# Altium integrated library TI Interface Serializer Deserializer.IntLib: 46 symbols (part 2 of 4)
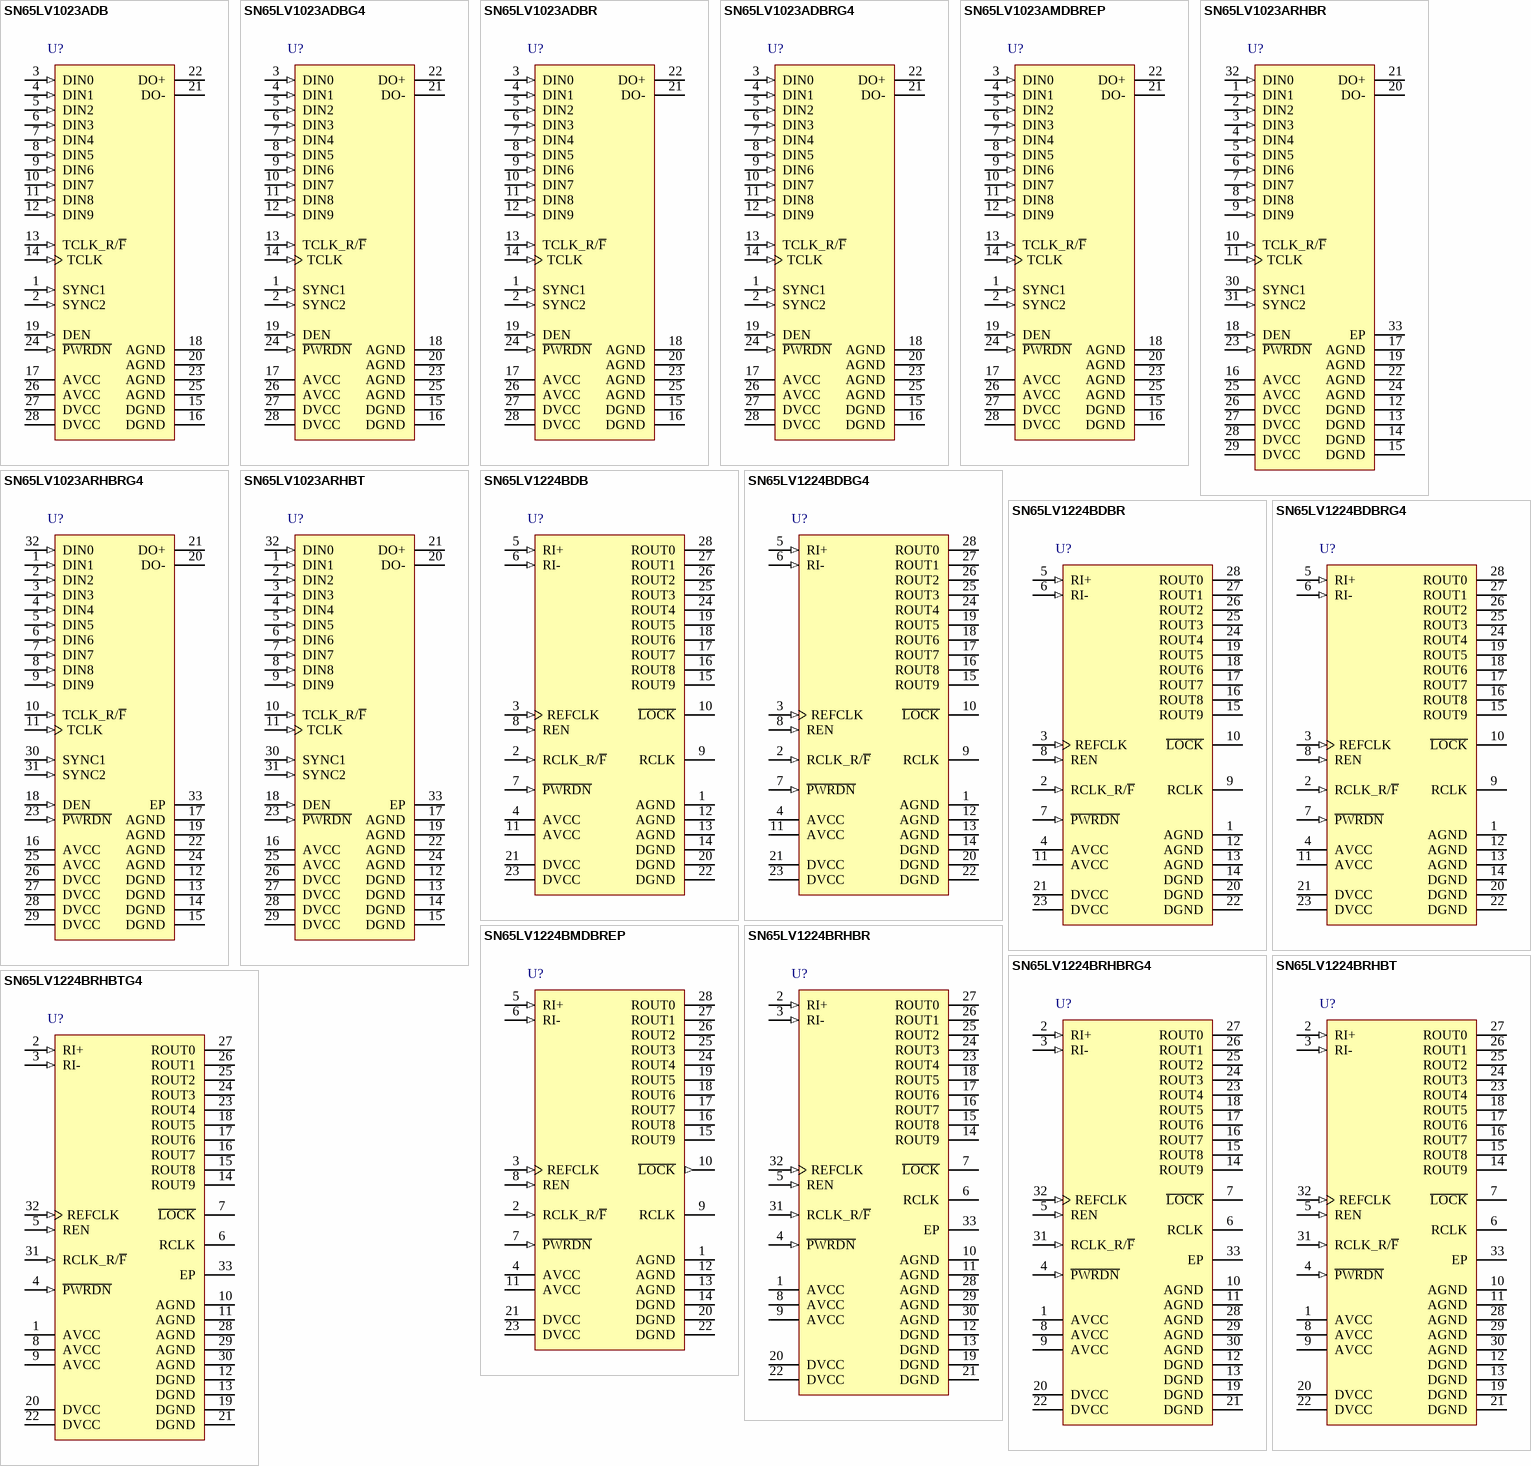
[diagram p5: symbols SN65LV1023ADB to SN65LV1224BRHBTG4]

## SN65LV1224BRHBRG4
designator U?
1:10 LVDS Serdes Receiver 100 - 660 Mbps, 3.3 V, 660 MB/s Data Throughput, 2 Receiver Channels, -40 to +85 degC, 32-pin QFN (RHB), Green (RoHS & no Sb/Br); Manufacturer: Texas Instruments; PartNumber: SN65LV1224BRHBRG4; Data Throughput(MB/s): 660; ICC(mA): 80; Number of Parallel Outputs: 10; PLL Frequency(MHz): 10 - 66; Receiver (Vth)(mV): 50; Receiver tpd(ns): 8; SerDes: TRUE; Serial Data Receiver Channels: 2; SubFamily: LVDS Serdes (<100 MHz); Supply Voltage(s)(V): 3.3; DatasheetVersion: SLLS621E; PackageVersion: revD, Jun-2011; PackageReference: RHB32-3450X3450TP; PackageDescription: 32-Pin Plastic Quad Flat No-Lead, 5 x 5 mm Body, 0.5 mm Pitch, 3.45 x 3.45 mm Exposed Pad; Eco-Plan: Green (RoHS & no Sb/Br); Type of Line Circuit: LVDS; Mounting Technology: Surface Mount; Code_JEDEC: MO-220; ComponentLink1Description: Datasheet; ComponentLink1URL: http://www.ti.com/general/docs/lit/getliterature.tsp?genericPartNumber=SN65LV1224B&fileType=pdf; ComponentLink2Description: URL Link1; ComponentLink2URL: SamplesURL:http://www.ti.com/product/sn65lv1224b#samples
footprint RHB32-3450X3450TP (QFN, 32-Leads, Body 5x5mm, Pitch 0.5mm, Thermal Pad 3.45x3.45mm, TI Recommended)
pins: 1 AVCC (power) "Analog circuit power supply (PLL and analog circuits)", 2 RI+ (in) "Serial data input. Noninverting LVDS differential input", 3 RI- (in) "Serial data input. Inverting LVDS differential input", 4 ~{PWRDN} (in) "LVTTL logic input. Asserting this pin low turns off the PLL and places outputs into a high-impedance state, putting the device into a low-power mode. To initiate power down, this pin is held low for a minimum of 16 ns. As (See Datasheet)", 5 REN (in) "LVTTL logic input. Low places ROUT0-ROUT9 and RCLK in the high-impedance state.", 6 RCLK (hiz) "LVTTL level output recovered clock. Use RCLK to strobe ROUTx.", 7 ~{LOCK} (hiz) "LVTTL level output. L\O\C\K\ goes low when the deserializer PLL locks onto the embedded clock edge.", 8 AVCC (power) "Analog circuit power supply (PLL and analog circuits)", 9 AVCC (power) "Analog circuit power supply (PLL and analog circuits)", 10 AGND (power) "Analog circuit ground (PLL and analog circuits)", 11 AGND (power) "Analog circuit ground (PLL and analog circuits)", 12 DGND (power) "Digital circuit ground", 13 DGND (power) "Digital circuit ground", 14 ROUT9 (hiz) "Parallel LVTTL data output", 15 ROUT8 (hiz) "Parallel LVTTL data output", 16 ROUT7 (hiz) "Parallel LVTTL data output", 17 ROUT6 (hiz) "Parallel LVTTL data output", 18 ROUT5 (hiz) "Parallel LVTTL data output", 19 DGND (power) "Digital circuit ground", 20 DVCC (power) "Digital circuit power supply", 21 DGND (power) "Digital circuit ground", 22 DVCC (power) "Digital circuit power supply", 23 ROUT4 (hiz) "Parallel LVTTL data output", 24 ROUT3 (hiz) "Parallel LVTTL data output", 25 ROUT2 (hiz) "Parallel LVTTL data output", 26 ROUT1 (hiz) "Parallel LVTTL data output", 27 ROUT0 (hiz) "Parallel LVTTL data output", 28 AGND (power) "Analog circuit ground (PLL and analog circuits)", 29 AGND (power) "Analog circuit ground (PLL and analog circuits)", 30 AGND (power) "Analog circuit ground (PLL and analog circuits)", 31 RCLK_R/~{F} (in) "LVTTL logic input. Low selects an RCLK falling-edge data strobe; high selects an RCLK rising-edge data strobe.", 32 REFCLK (in) "LVTTL logic input. Use this pin to supply a REFCLK signal for the internal PLL frequency.", 33 EP "Exposed Thermal Pad"

## SN65LV1224BRHBT
designator U?
1:10 LVDS Serdes Receiver 100 - 660 Mbps , 3.3 V, 660 MB/s Data Throughput, 2 Receiver Channels, -40 to +85 degC, 32-pin QFN (RHB), Green (RoHS & no Sb/Br); Manufacturer: Texas Instruments; PartNumber: SN65LV1224BRHBT; Data Throughput(MB/s): 660; ICC(mA): 80; Number of Parallel Outputs: 10; PLL Frequency(MHz): 10 - 66; Receiver (Vth)(mV): 50; Receiver tpd(ns): 8; SerDes: TRUE; Serial Data Receiver Channels: 2; SubFamily: LVDS Serdes (<100 MHz); Supply Voltage(s)(V): 3.3; DatasheetVersion: SLLS621E; PackageVersion: revD, Jun-2011; PackageReference: RHB32-3450X3450TP; PackageDescription: 32-Pin Plastic Quad Flat No-Lead, 5 x 5 mm Body, 0.5 mm Pitch, 3.45 x 3.45 mm Exposed Pad; Eco-Plan: Green (RoHS & no Sb/Br); Type of Line Circuit: LVDS; Mounting Technology: Surface Mount; Code_JEDEC: MO-220; ComponentLink1Description: Datasheet; ComponentLink1URL: http://www.ti.com/general/docs/lit/getliterature.tsp?genericPartNumber=SN65LV1224B&fileType=pdf; ComponentLink2Description: URL Link1; ComponentLink2URL: SamplesURL:http://www.ti.com/product/sn65lv1224b#samples
footprint RHB32-3450X3450TP (QFN, 32-Leads, Body 5x5mm, Pitch 0.5mm, Thermal Pad 3.45x3.45mm, TI Recommended)
pins: 1 AVCC (power) "Analog circuit power supply (PLL and analog circuits)", 2 RI+ (in) "Serial data input. Noninverting LVDS differential input", 3 RI- (in) "Serial data input. Inverting LVDS differential input", 4 ~{PWRDN} (in) "LVTTL logic input. Asserting this pin low turns off the PLL and places outputs into a high-impedance state, putting the device into a low-power mode. To initiate power down, this pin is held low for a minimum of 16 ns. As (See Datasheet)", 5 REN (in) "LVTTL logic input. Low places ROUT0-ROUT9 and RCLK in the high-impedance state.", 6 RCLK (hiz) "LVTTL level output recovered clock. Use RCLK to strobe ROUTx.", 7 ~{LOCK} (hiz) "LVTTL level output. L\O\C\K\ goes low when the deserializer PLL locks onto the embedded clock edge.", 8 AVCC (power) "Analog circuit power supply (PLL and analog circuits)", 9 AVCC (power) "Analog circuit power supply (PLL and analog circuits)", 10 AGND (power) "Analog circuit ground (PLL and analog circuits)", 11 AGND (power) "Analog circuit ground (PLL and analog circuits)", 12 DGND (power) "Digital circuit ground", 13 DGND (power) "Digital circuit ground", 14 ROUT9 (hiz) "Parallel LVTTL data output", 15 ROUT8 (hiz) "Parallel LVTTL data output", 16 ROUT7 (hiz) "Parallel LVTTL data output", 17 ROUT6 (hiz) "Parallel LVTTL data output", 18 ROUT5 (hiz) "Parallel LVTTL data output", 19 DGND (power) "Digital circuit ground", 20 DVCC (power) "Digital circuit power supply", 21 DGND (power) "Digital circuit ground", 22 DVCC (power) "Digital circuit power supply", 23 ROUT4 (hiz) "Parallel LVTTL data output", 24 ROUT3 (hiz) "Parallel LVTTL data output", 25 ROUT2 (hiz) "Parallel LVTTL data output", 26 ROUT1 (hiz) "Parallel LVTTL data output", 27 ROUT0 (hiz) "Parallel LVTTL data output", 28 AGND (power) "Analog circuit ground (PLL and analog circuits)", 29 AGND (power) "Analog circuit ground (PLL and analog circuits)", 30 AGND (power) "Analog circuit ground (PLL and analog circuits)", 31 RCLK_R/~{F} (in) "LVTTL logic input. Low selects an RCLK falling-edge data strobe; high selects an RCLK rising-edge data strobe.", 32 REFCLK (in) "LVTTL logic input. Use this pin to supply a REFCLK signal for the internal PLL frequency.", 33 EP "Exposed Thermal Pad"

## SN65LV1224BRHBTG4
designator U?
1:10 LVDS Serdes Receiver 100 - 660 Mbps, 3.3 V, 660 MB/s Data Throughput, 2 Receiver Channels, -40 to +85 degC, 32-pin QFN (RHB), Green (RoHS & no Sb/Br); Manufacturer: Texas Instruments; PartNumber: SN65LV1224BRHBTG4; Data Throughput(MB/s): 660; ICC(mA): 80; Number of Parallel Outputs: 10; PLL Frequency(MHz): 10 - 66; Receiver (Vth)(mV): 50; Receiver tpd(ns): 8; SerDes: TRUE; Serial Data Receiver Channels: 2; SubFamily: LVDS Serdes (<100 MHz); Supply Voltage(s)(V): 3.3; DatasheetVersion: SLLS621E; PackageVersion: revD, Jun-2011; PackageReference: RHB32-3450X3450TP; PackageDescription: 32-Pin Plastic Quad Flat No-Lead, 5 x 5 mm Body, 0.5 mm Pitch, 3.45 x 3.45 mm Exposed Pad; Eco-Plan: Green (RoHS & no Sb/Br); Type of Line Circuit: LVDS; Mounting Technology: Surface Mount; Code_JEDEC: MO-220; ComponentLink1Description: Datasheet; ComponentLink1URL: http://www.ti.com/general/docs/lit/getliterature.tsp?genericPartNumber=SN65LV1224B&fileType=pdf; ComponentLink2Description: URL Link1; ComponentLink2URL: SamplesURL:http://www.ti.com/product/sn65lv1224b#samples
footprint RHB32-3450X3450TP (QFN, 32-Leads, Body 5x5mm, Pitch 0.5mm, Thermal Pad 3.45x3.45mm, TI Recommended)
pins: 1 AVCC (power) "Analog circuit power supply (PLL and analog circuits)", 2 RI+ (in) "Serial data input. Noninverting LVDS differential input", 3 RI- (in) "Serial data input. Inverting LVDS differential input", 4 ~{PWRDN} (in) "LVTTL logic input. Asserting this pin low turns off the PLL and places outputs into a high-impedance state, putting the device into a low-power mode. To initiate power down, this pin is held low for a minimum of 16 ns. As (See Datasheet)", 5 REN (in) "LVTTL logic input. Low places ROUT0-ROUT9 and RCLK in the high-impedance state.", 6 RCLK (hiz) "LVTTL level output recovered clock. Use RCLK to strobe ROUTx.", 7 ~{LOCK} (hiz) "LVTTL level output. L\O\C\K\ goes low when the deserializer PLL locks onto the embedded clock edge.", 8 AVCC (power) "Analog circuit power supply (PLL and analog circuits)", 9 AVCC (power) "Analog circuit power supply (PLL and analog circuits)", 10 AGND (power) "Analog circuit ground (PLL and analog circuits)", 11 AGND (power) "Analog circuit ground (PLL and analog circuits)", 12 DGND (power) "Digital circuit ground", 13 DGND (power) "Digital circuit ground", 14 ROUT9 (hiz) "Parallel LVTTL data output", 15 ROUT8 (hiz) "Parallel LVTTL data output", 16 ROUT7 (hiz) "Parallel LVTTL data output", 17 ROUT6 (hiz) "Parallel LVTTL data output", 18 ROUT5 (hiz) "Parallel LVTTL data output", 19 DGND (power) "Digital circuit ground", 20 DVCC (power) "Digital circuit power supply", 21 DGND (power) "Digital circuit ground", 22 DVCC (power) "Digital circuit power supply", 23 ROUT4 (hiz) "Parallel LVTTL data output", 24 ROUT3 (hiz) "Parallel LVTTL data output", 25 ROUT2 (hiz) "Parallel LVTTL data output", 26 ROUT1 (hiz) "Parallel LVTTL data output", 27 ROUT0 (hiz) "Parallel LVTTL data output", 28 AGND (power) "Analog circuit ground (PLL and analog circuits)", 29 AGND (power) "Analog circuit ground (PLL and analog circuits)", 30 AGND (power) "Analog circuit ground (PLL and analog circuits)", 31 RCLK_R/~{F} (in) "LVTTL logic input. Low selects an RCLK falling-edge data strobe; high selects an RCLK rising-edge data strobe.", 32 REFCLK (in) "LVTTL logic input. Use this pin to supply a REFCLK signal for the internal PLL frequency.", 33 EP "Exposed Thermal Pad"

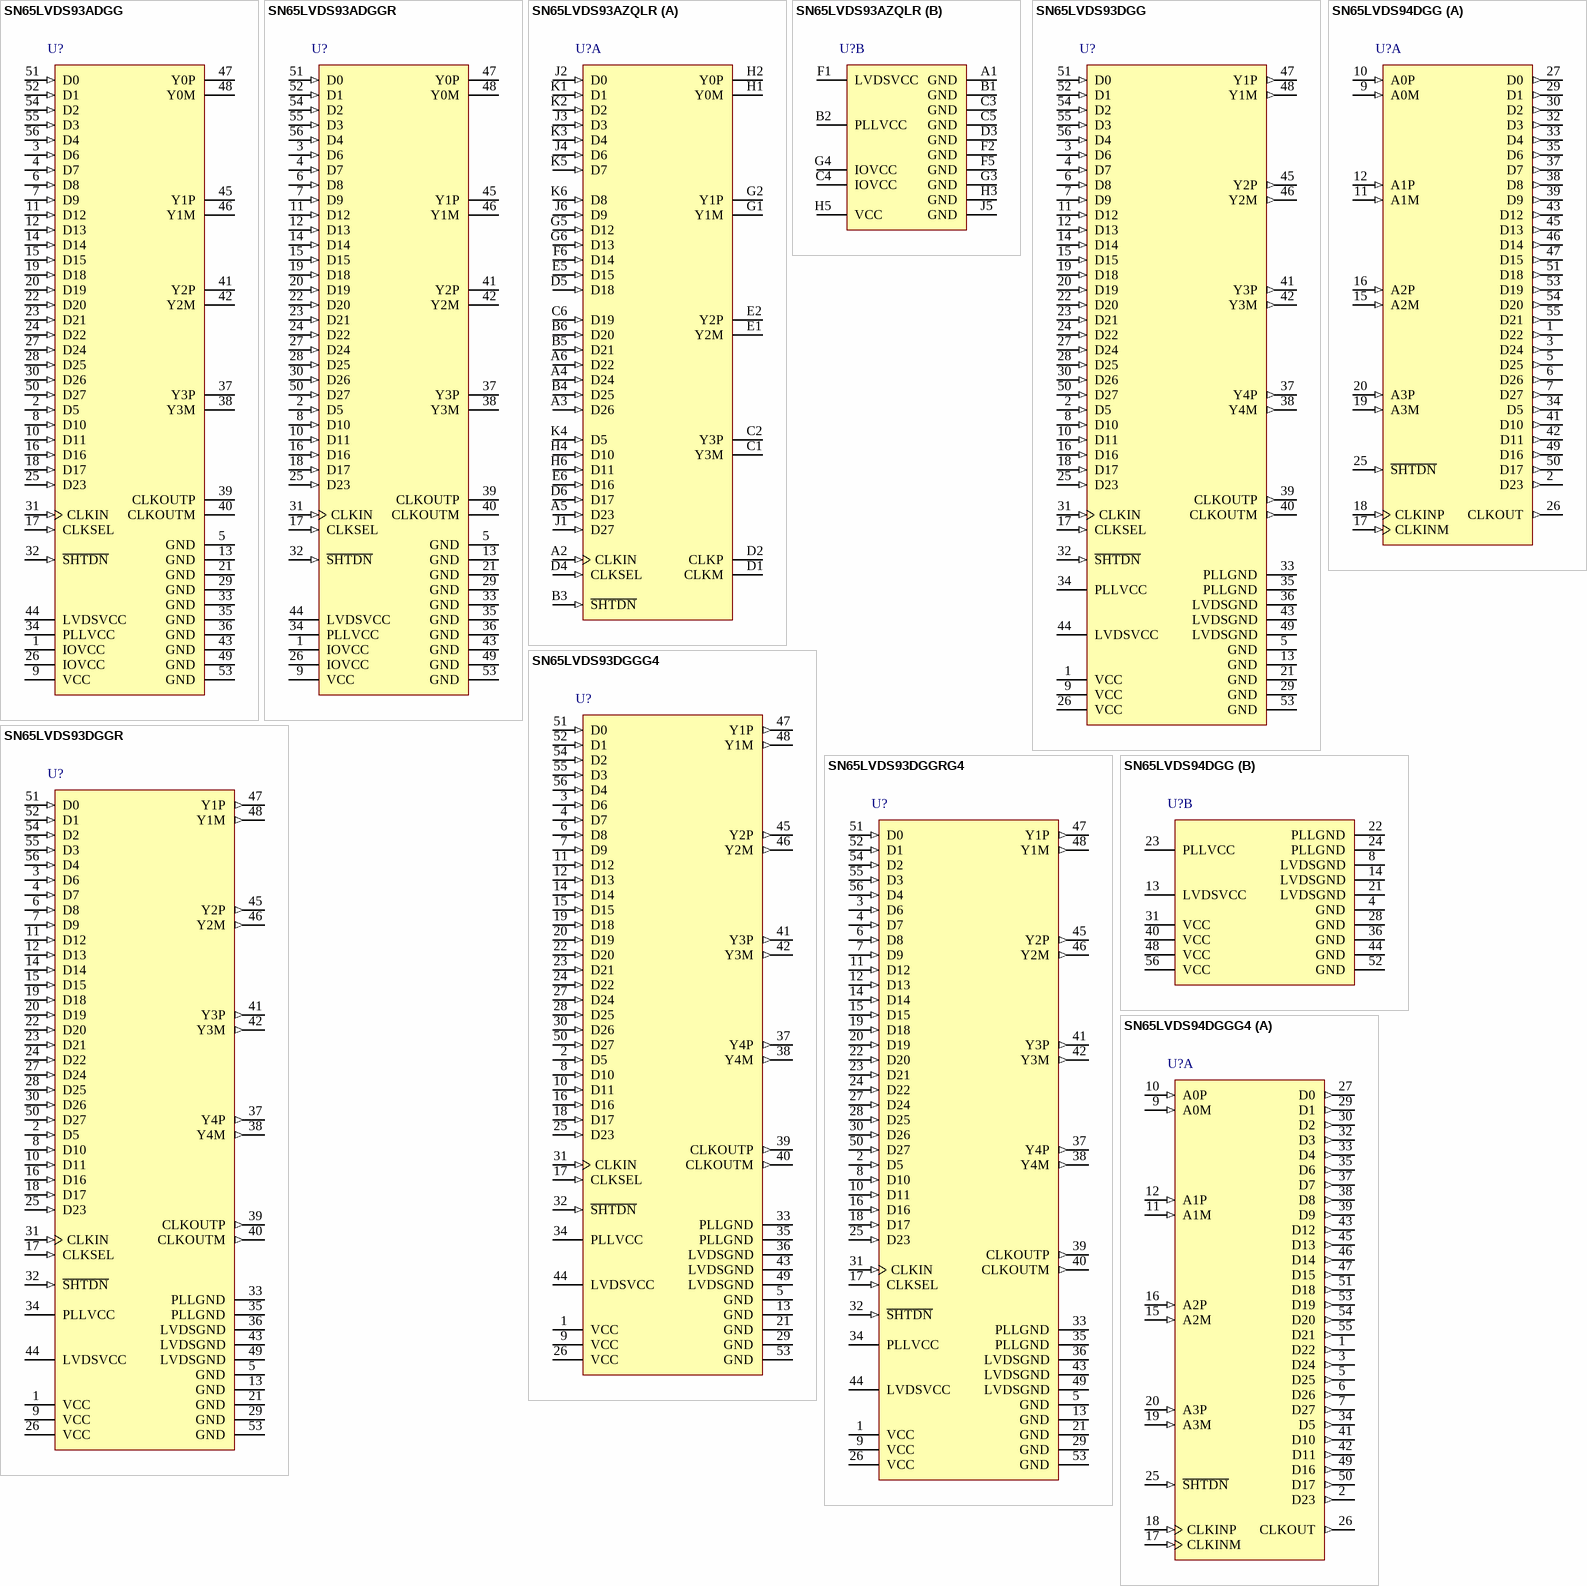
[diagram p1: symbols SN65LVDS93ADGG to SN65LVDS94DGGG4]

## SN65LVDS93ADGG
designator U?
LVDS Serdes Transmitter, 10 - 135 MHZ, 3.3 V, -40 to +85 degC, 56-pin TSSOP (DGG), Green (RoHS & no Sb/Br); Manufacturer: Texas Instruments; PartNumber: SN65LVDS93ADGG; Driver (RL)(Ohms): 100; Driver tpd(ns): 14.2; Flat Panel Display: TRUE; ICC(mA): 110; Number of Parallel Inputs: 28; PLL Frequency(MHz): 10 - 135; Serial Data Transmitter Channels: 4; SubFamily: LVDS Serdes (<100 MHz); Supply Voltage(s)(V): 3.3; DatasheetVersion: SLLS992A; PackageVersion: revF, Dec-1997; PackageReference: DGG56; PackageDescription: 56-Pin Plastic Small Outline 0.5 mm Pitch; Supplier 1: Digi-Key; Supplier Part Number 1: 296-25108-5-ND; Supplier 2: Mouser; Supplier Part Number 2: 595-SN65LVDS93ADGG; Eco-Plan: Green (RoHS & no Sb/Br); Transmitter: TRUE; Type of Line Circuit: LVDS; Mounting Technology: Surface Mount; Code_JEDEC: MO-153; ComponentLink1Description: Datasheet; ComponentLink1URL: http://www.ti.com/general/docs/lit/getliterature.tsp?genericPartNumber=SN65LVDS93A&fileType=pdf; ComponentLink2Description: URL Link1; ComponentLink2URL: SamplesURL:http://www.ti.com/product/sn65lvds93a#samples
footprint DGG56_N (TSSOP, 56-Leads, Body 14x6.1mm, Pitch 0.5mm, IPC Medium Density)
footprint DGG56_L (TSSOP, 56-Leads, Body 14x6.1mm, Pitch 0.5mm, IPC High Density)
footprint DGG56_M (TSSOP, 56-Leads, Body 14x6.1mm, Pitch 0.5mm, IPC Low Density)
pins: 1 IOVCC (power) "I/O supply reference voltage (1.8V up to 3.3V matching the GPU data output signal swing)", 2 D5 (in) "Data inputs; supports 1.8V to 3.3V input voltage selectable by VDD supply. To connect a graphic source successfully to a display,the bit assignment of D[27:0] is critical (and not necessarily intuitive). note:if application (See Datasheet)", 3 D6 (in) "Data inputs; supports 1.8V to 3.3V input voltage selectable by VDD supply. To connect a graphic source successfully to a display,the bit assignment of D[27:0] is critical (and not necessarily intuitive). note:if application (See Datasheet)", 4 D7 (in) "Data inputs; supports 1.8V to 3.3V input voltage selectable by VDD supply. To connect a graphic source successfully to a display,the bit assignment of D[27:0] is critical (and not necessarily intuitive). note:if application (See Datasheet)", 5 GND (power) "Supply Ground for VCC, IOVCC, LVDSVCC, and PLLVCC.", 6 D8 (in) "Data inputs; supports 1.8V to 3.3V input voltage selectable by VDD supply. To connect a graphic source successfully to a display,the bit assignment of D[27:0] is critical (and not necessarily intuitive). note:if application (See Datasheet)", 7 D9 (in) "Data inputs; supports 1.8V to 3.3V input voltage selectable by VDD supply. To connect a graphic source successfully to a display,the bit assignment of D[27:0] is critical (and not necessarily intuitive). note:if application (See Datasheet)", 8 D10 (in) "Data inputs; supports 1.8V to 3.3V input voltage selectable by VDD supply. To connect a graphic source successfully to a display,the bit assignment of D[27:0] is critical (and not necessarily intuitive). note:if application (See Datasheet)", 9 VCC (power) "3.3V digital Supply Voltage", 10 D11 (in) "Data inputs; supports 1.8V to 3.3V input voltage selectable by VDD supply. To connect a graphic source successfully to a display,the bit assignment of D[27:0] is critical (and not necessarily intuitive). note:if application (See Datasheet)", 11 D12 (in) "Data inputs; supports 1.8V to 3.3V input voltage selectable by VDD supply. To connect a graphic source successfully to a display,the bit assignment of D[27:0] is critical (and not necessarily intuitive). note:if application (See Datasheet)", 12 D13 (in) "Data inputs; supports 1.8V to 3.3V input voltage selectable by VDD supply. To connect a graphic source successfully to a display,the bit assignment of D[27:0] is critical (and not necessarily intuitive). note:if application (See Datasheet)", 13 GND (power) "Supply Ground for VCC, IOVCC, LVDSVCC, and PLLVCC", 14 D14 (in) "Data inputs; supports 1.8V to 3.3V input voltage selectable by VDD supply. To connect a graphic source successfully to a display,the bit assignment of D[27:0] is critical (and not necessarily intuitive). note:if application (See Datasheet)", 15 D15 (in) "Data inputs; supports 1.8V to 3.3V input voltage selectable by VDD supply. To connect a graphic source successfully to a display,the bit assignment of D[27:0] is critical (and not necessarily intuitive). note:if application (See Datasheet)", 16 D16 (in) "Data inputs; supports 1.8V to 3.3V input voltage selectable by VDD supply. To connect a graphic source successfully to a display,the bit assignment of D[27:0] is critical (and not necessarily intuitive). note:if application (See Datasheet)", 17 CLKSEL (in) "Selects between rising edge input clock trigger (CLKSEL = VIH) and falling edge input clock trigger(CLKSEL=VIL).", 18 D17 (in) "Data inputs; supports 1.8V to 3.3V input voltage selectable by VDD supply. To connect a graphic source successfully to a display,the bit assignment of D[27:0] is critical (and not necessarily intuitive). note:if application (See Datasheet)", 19 D18 (in) "Data inputs; supports 1.8V to 3.3V input voltage selectable by VDD supply. To connect a graphic source successfully to a display,the bit assignment of D[27:0] is critical (and not necessarily intuitive). note:if application (See Datasheet)", 20 D19 (in) "Data inputs; supports 1.8V to 3.3V input voltage selectable by VDD supply. To connect a graphic source successfully to a display,the bit assignment of D[27:0] is critical (and not necessarily intuitive). note:if application (See Datasheet)", 21 GND (power) "Supply Ground for VCC, IOVCC, LVDSVCC, and PLLVCC.", 22 D20 (in) "Data inputs; supports 1.8V to 3.3V input voltage selectable by VDD supply. To connect a graphic source successfully to a display,the bit assignment of D[27:0] is critical (and not necessarily intuitive). note:if application (See Datasheet)", 23 D21 (in) "Data inputs; supports 1.8V to 3.3V input voltage selectable by VDD supply. To connect a graphic source successfully to a display,the bit assignment of D[27:0] is critical (and not necessarily intuitive). note:if application (See Datasheet)", 24 D22 (in) "Data inputs; supports 1.8V to 3.3V input voltage selectable by VDD supply. To connect a graphic source successfully to a display,the bit assignment of D[27:0] is critical (and not necessarily intuitive). note:if application (See Datasheet)", 25 D23 (in) "Data inputs; supports 1.8V to 3.3V input voltage selectable by VDD supply. To connect a graphic source successfully to a display,the bit assignment of D[27:0] is critical (and not necessarily intuitive). note:if application (See Datasheet)", 26 IOVCC (power) "I/O supply reference voltage (1.8V up to 3.3V matching the GPU data output signal swing)", 27 D24 (in) "Data inputs; supports 1.8V to 3.3V input voltage selectable by VDD supply. To connect a graphic source successfully to a display,the bit assignment of D[27:0] is critical (and not necessarily intuitive). note:if application (See Datasheet)", 28 D25 (in) "Data inputs; supports 1.8V to 3.3V input voltage selectable by VDD supply. To connect a graphic source successfully to a display,the bit assignment of D[27:0] is critical (and not necessarily intuitive). note:if application (See Datasheet)", 29 GND (power) "Supply Ground for VCC, IOVCC, LVDSVCC, and PLLVCC.", 30 D26 (in) "Data inputs; supports 1.8V to 3.3V input voltage selectable by VDD supply. To connect a graphic source successfully to a display,the bit assignment of D[27:0] is critical (and not necessarily intuitive). note:if application (See Datasheet)", 31 CLKIN (in) "Input pixel clock; rising or falling clock polarity is selectable by Control input CLKSEL.", 32 ~{SHTDN} (in) "Device shut down;pull  low (de-assert) to shut down the device (low power, resets all registers) and high (assert)for normal operation.", 33 GND (power) "Supply Ground for VCC, IOVCC, LVDSVCC, and PLLVCC.", 34 PLLVCC (power) "3.3V PLL analog supply", 35 GND (power) "Supply Ground for VCC, IOVCC, LVDSVCC, and PLLVCC", 36 GND (power) "Supply Ground for VCC, IOVCC, LVDSVCC, and PLLVCC", 37 Y3P (hiz) "Differential LVDS Data outputs.Output is high-impedance when S\H\T\D\N\ is pulled low (de-asserted).  Note: if the application only requires 18-bit color, this output can be left open.", 38 Y3M (hiz) "Differential LVDS Data outputs.Output is high-impedance when S\H\T\D\N\ is pulled low (de-asserted).  Note: if the application only requires 18-bit color, this output can be left open.", 39 CLKOUTP (hiz) "Differential LVDS pixel clock output.Output is high-impedance when S\H\T\D\N is pulled low (de-asserted)", 40 CLKOUTM (hiz) "Differential LVDS pixel clock output.Output is high-impedance when S\H\T\D\N is pulled low (de-asserted)", 41 Y2P (hiz) "Differential LVDS data outputs.Outputs are high-impedance when S\H\T\D\N\ is pulled low (de-asserted)", 42 Y2M (hiz) "Differential LVDS data outputs.Outputs are high-impedance when S\H\T\D\N\ is pulled low (de-asserted)", 43 GND (power) "Supply Ground for VCC, IOVCC, LVDSVCC, and PLLVCC.", 44 LVDSVCC (power) "3.3V LVDS output analog supply", 45 Y1P (hiz) "Differential LVDS data outputs.Outputs are high-impedance when S\H\T\D\N\ is pulled low (de-asserted)", 46 Y1M (hiz) "Differential LVDS data outputs.Outputs are high-impedance when S\H\T\D\N\ is pulled low (de-asserted)", 47 Y0P (hiz) "Differential LVDS data outputs.Outputs are high-impedance when S\H\T\D\N\ is pulled low (de-asserted)", 48 Y0M (hiz) "Differential LVDS data outputs.Outputs are high-impedance when S\H\T\D\N\ is pulled low (de-asserted)", 49 GND (power) "Supply Ground for VCC, IOVCC, LVDSVCC, and PLLVCC.", 50 D27 (in) "Data inputs; supports 1.8V to 3.3V input voltage selectable by VDD supply. To connect a graphic source successfully to a display,the bit assignment of D[27:0] is critical (and not necessarily intuitive). note:if application (See Datasheet)", 51 D0 (in) "Data inputs; supports 1.8V to 3.3V input voltage selectable by VDD supply. To connect a graphic source successfully to a display,the bit assignment of D[27:0] is critical (and not necessarily intuitive). note:if application (See Datasheet)", 52 D1 (in) "Data inputs; supports 1.8V to 3.3V input voltage selectable by VDD supply. To connect a graphic source successfully to a display,the bit assignment of D[27:0] is critical (and not necessarily intuitive). note:if application (See Datasheet)", 53 GND (power) "Supply Ground for VCC, IOVCC, LVDSVCC, and PLLVCC.", 54 D2 (in) "Data inputs; supports 1.8V to 3.3V input voltage selectable by VDD supply. To connect a graphic source successfully to a display,the bit assignment of D[27:0] is critical (and not necessarily intuitive). note:if application (See Datasheet)", 55 D3 (in) "Data inputs; supports 1.8V to 3.3V input voltage selectable by VDD supply. To connect a graphic source successfully to a display,the bit assignment of D[27:0] is critical (and not necessarily intuitive). note:if application (See Datasheet)", 56 D4 (in) "Data inputs; supports 1.8V to 3.3V input voltage selectable by VDD supply. To connect a graphic source successfully to a display,the bit assignment of D[27:0] is critical (and not necessarily intuitive). note:if application (See Datasheet)"

## SN65LVDS93ADGGR
designator U?
10 - 135 MHz LVDS Serdes Transmitter, 3.3 V, -40 to +85 degC, 56-pin TSSOP (DGG), Green (RoHS & no Sb/Br); Manufacturer: Texas Instruments; PartNumber: SN65LVDS93ADGGR; Driver (RL)(Ohms): 100; Driver tpd(ns): 14.2; Flat Panel Display: TRUE; ICC(mA): 110; Number of Parallel Inputs: 28; PLL Frequency(MHz): 10 - 135; Serial Data Transmitter Channels: 4; SubFamily: LVDS Serdes (<100 MHz); Supply Voltage(s)(V): 3.3; DatasheetVersion: SLLS992A; PackageVersion: revF, Dec-1997; PackageReference: DGG56; PackageDescription: 56-Pin Plastic Small Outline 0.5 mm Pitch; Supplier 1: Digi-Key; Supplier Part Number 1: SN65LVDS93ADGGR-ND; Supplier 2: Mouser; Supplier Part Number 2: 595-SN65LVDS93ADGGR; Eco-Plan: Green (RoHS & no Sb/Br); Transmitter: TRUE; Type of Line Circuit: LVDS; Mounting Technology: Surface Mount; Code_JEDEC: MO-153; ComponentLink1Description: Datasheet; ComponentLink1URL: http://www.ti.com/general/docs/lit/getliterature.tsp?genericPartNumber=SN65LVDS93A&fileType=pdf; ComponentLink2Description: URL Link1; ComponentLink2URL: SamplesURL:http://www.ti.com/product/sn65lvds93a#samples
footprint DGG56_N (TSSOP, 56-Leads, Body 14x6.1mm, Pitch 0.5mm, IPC Medium Density)
footprint DGG56_L (TSSOP, 56-Leads, Body 14x6.1mm, Pitch 0.5mm, IPC High Density)
footprint DGG56_M (TSSOP, 56-Leads, Body 14x6.1mm, Pitch 0.5mm, IPC Low Density)
pins: 1 IOVCC (power) "I/O supply reference voltage (1.8V up to 3.3V matching the GPU data output signal swing)", 2 D5 (in) "Data inputs; supports 1.8V to 3.3V input voltage selectable by VDD supply. To connect a graphic source successfully to a display,the bit assignment of D[27:0] is critical (and not necessarily intuitive). note:if application (See Datasheet)", 3 D6 (in) "Data inputs; supports 1.8V to 3.3V input voltage selectable by VDD supply. To connect a graphic source successfully to a display,the bit assignment of D[27:0] is critical (and not necessarily intuitive). note:if application (See Datasheet)", 4 D7 (in) "Data inputs; supports 1.8V to 3.3V input voltage selectable by VDD supply. To connect a graphic source successfully to a display,the bit assignment of D[27:0] is critical (and not necessarily intuitive). note:if application (See Datasheet)", 5 GND (power) "Supply Ground for VCC, IOVCC, LVDSVCC, and PLLVCC.", 6 D8 (in) "Data inputs; supports 1.8V to 3.3V input voltage selectable by VDD supply. To connect a graphic source successfully to a display,the bit assignment of D[27:0] is critical (and not necessarily intuitive). note:if application (See Datasheet)", 7 D9 (in) "Data inputs; supports 1.8V to 3.3V input voltage selectable by VDD supply. To connect a graphic source successfully to a display,the bit assignment of D[27:0] is critical (and not necessarily intuitive). note:if application (See Datasheet)", 8 D10 (in) "Data inputs; supports 1.8V to 3.3V input voltage selectable by VDD supply. To connect a graphic source successfully to a display,the bit assignment of D[27:0] is critical (and not necessarily intuitive). note:if application (See Datasheet)", 9 VCC (power) "3.3V digital Supply Voltage", 10 D11 (in) "Data inputs; supports 1.8V to 3.3V input voltage selectable by VDD supply. To connect a graphic source successfully to a display,the bit assignment of D[27:0] is critical (and not necessarily intuitive). note:if application (See Datasheet)", 11 D12 (in) "Data inputs; supports 1.8V to 3.3V input voltage selectable by VDD supply. To connect a graphic source successfully to a display,the bit assignment of D[27:0] is critical (and not necessarily intuitive). note:if application (See Datasheet)", 12 D13 (in) "Data inputs; supports 1.8V to 3.3V input voltage selectable by VDD supply. To connect a graphic source successfully to a display,the bit assignment of D[27:0] is critical (and not necessarily intuitive). note:if application (See Datasheet)", 13 GND (power) "Supply Ground for VCC, IOVCC, LVDSVCC, and PLLVCC", 14 D14 (in) "Data inputs; supports 1.8V to 3.3V input voltage selectable by VDD supply. To connect a graphic source successfully to a display,the bit assignment of D[27:0] is critical (and not necessarily intuitive). note:if application (See Datasheet)", 15 D15 (in) "Data inputs; supports 1.8V to 3.3V input voltage selectable by VDD supply. To connect a graphic source successfully to a display,the bit assignment of D[27:0] is critical (and not necessarily intuitive). note:if application (See Datasheet)", 16 D16 (in) "Data inputs; supports 1.8V to 3.3V input voltage selectable by VDD supply. To connect a graphic source successfully to a display,the bit assignment of D[27:0] is critical (and not necessarily intuitive). note:if application (See Datasheet)", 17 CLKSEL (in) "Selects between rising edge input clock trigger (CLKSEL = VIH) and falling edge input clock trigger(CLKSEL=VIL).", 18 D17 (in) "Data inputs; supports 1.8V to 3.3V input voltage selectable by VDD supply. To connect a graphic source successfully to a display,the bit assignment of D[27:0] is critical (and not necessarily intuitive). note:if application (See Datasheet)", 19 D18 (in) "Data inputs; supports 1.8V to 3.3V input voltage selectable by VDD supply. To connect a graphic source successfully to a display,the bit assignment of D[27:0] is critical (and not necessarily intuitive). note:if application (See Datasheet)", 20 D19 (in) "Data inputs; supports 1.8V to 3.3V input voltage selectable by VDD supply. To connect a graphic source successfully to a display,the bit assignment of D[27:0] is critical (and not necessarily intuitive). note:if application (See Datasheet)", 21 GND (power) "Supply Ground for VCC, IOVCC, LVDSVCC, and PLLVCC.", 22 D20 (in) "Data inputs; supports 1.8V to 3.3V input voltage selectable by VDD supply. To connect a graphic source successfully to a display,the bit assignment of D[27:0] is critical (and not necessarily intuitive). note:if application (See Datasheet)", 23 D21 (in) "Data inputs; supports 1.8V to 3.3V input voltage selectable by VDD supply. To connect a graphic source successfully to a display,the bit assignment of D[27:0] is critical (and not necessarily intuitive). note:if application (See Datasheet)", 24 D22 (in) "Data inputs; supports 1.8V to 3.3V input voltage selectable by VDD supply. To connect a graphic source successfully to a display,the bit assignment of D[27:0] is critical (and not necessarily intuitive). note:if application (See Datasheet)", 25 D23 (in) "Data inputs; supports 1.8V to 3.3V input voltage selectable by VDD supply. To connect a graphic source successfully to a display,the bit assignment of D[27:0] is critical (and not necessarily intuitive). note:if application (See Datasheet)", 26 IOVCC (power) "I/O supply reference voltage (1.8V up to 3.3V matching the GPU data output signal swing)", 27 D24 (in) "Data inputs; supports 1.8V to 3.3V input voltage selectable by VDD supply. To connect a graphic source successfully to a display,the bit assignment of D[27:0] is critical (and not necessarily intuitive). note:if application (See Datasheet)", 28 D25 (in) "Data inputs; supports 1.8V to 3.3V input voltage selectable by VDD supply. To connect a graphic source successfully to a display,the bit assignment of D[27:0] is critical (and not necessarily intuitive). note:if application (See Datasheet)", 29 GND (power) "Supply Ground for VCC, IOVCC, LVDSVCC, and PLLVCC.", 30 D26 (in) "Data inputs; supports 1.8V to 3.3V input voltage selectable by VDD supply. To connect a graphic source successfully to a display,the bit assignment of D[27:0] is critical (and not necessarily intuitive). note:if application (See Datasheet)", 31 CLKIN (in) "Input pixel clock; rising or falling clock polarity is selectable by Control input CLKSEL.", 32 ~{SHTDN} (in) "Device shut down;pull  low (de-assert) to shut down the device (low power, resets all registers) and high (assert)for normal operation.", 33 GND (power) "Supply Ground for VCC, IOVCC, LVDSVCC, and PLLVCC.", 34 PLLVCC (power) "3.3V PLL analog supply", 35 GND (power) "Supply Ground for VCC, IOVCC, LVDSVCC, and PLLVCC", 36 GND (power) "Supply Ground for VCC, IOVCC, LVDSVCC, and PLLVCC", 37 Y3P (hiz) "Differential LVDS Data outputs.Output is high-impedance when S\H\T\D\N\ is pulled low (de-asserted).  Note: if the application only requires 18-bit color, this output can be left open.", 38 Y3M (hiz) "Differential LVDS Data outputs.Output is high-impedance when S\H\T\D\N\ is pulled low (de-asserted).  Note: if the application only requires 18-bit color, this output can be left open.", 39 CLKOUTP (hiz) "Differential LVDS pixel clock output.Output is high-impedance when S\H\T\D\N is pulled low (de-asserted)", 40 CLKOUTM (hiz) "Differential LVDS pixel clock output.Output is high-impedance when S\H\T\D\N is pulled low (de-asserted)", 41 Y2P (hiz) "Differential LVDS data outputs.Outputs are high-impedance when S\H\T\D\N\ is pulled low (de-asserted)", 42 Y2M (hiz) "Differential LVDS data outputs.Outputs are high-impedance when S\H\T\D\N\ is pulled low (de-asserted)", 43 GND (power) "Supply Ground for VCC, IOVCC, LVDSVCC, and PLLVCC.", 44 LVDSVCC (power) "3.3V LVDS output analog supply", 45 Y1P (hiz) "Differential LVDS data outputs.Outputs are high-impedance when S\H\T\D\N\ is pulled low (de-asserted)", 46 Y1M (hiz) "Differential LVDS data outputs.Outputs are high-impedance when S\H\T\D\N\ is pulled low (de-asserted)", 47 Y0P (hiz) "Differential LVDS data outputs.Outputs are high-impedance when S\H\T\D\N\ is pulled low (de-asserted)", 48 Y0M (hiz) "Differential LVDS data outputs.Outputs are high-impedance when S\H\T\D\N\ is pulled low (de-asserted)", 49 GND (power) "Supply Ground for VCC, IOVCC, LVDSVCC, and PLLVCC.", 50 D27 (in) "Data inputs; supports 1.8V to 3.3V input voltage selectable by VDD supply. To connect a graphic source successfully to a display,the bit assignment of D[27:0] is critical (and not necessarily intuitive). note:if application (See Datasheet)", 51 D0 (in) "Data inputs; supports 1.8V to 3.3V input voltage selectable by VDD supply. To connect a graphic source successfully to a display,the bit assignment of D[27:0] is critical (and not necessarily intuitive). note:if application (See Datasheet)", 52 D1 (in) "Data inputs; supports 1.8V to 3.3V input voltage selectable by VDD supply. To connect a graphic source successfully to a display,the bit assignment of D[27:0] is critical (and not necessarily intuitive). note:if application (See Datasheet)", 53 GND (power) "Supply Ground for VCC, IOVCC, LVDSVCC, and PLLVCC.", 54 D2 (in) "Data inputs; supports 1.8V to 3.3V input voltage selectable by VDD supply. To connect a graphic source successfully to a display,the bit assignment of D[27:0] is critical (and not necessarily intuitive). note:if application (See Datasheet)", 55 D3 (in) "Data inputs; supports 1.8V to 3.3V input voltage selectable by VDD supply. To connect a graphic source successfully to a display,the bit assignment of D[27:0] is critical (and not necessarily intuitive). note:if application (See Datasheet)", 56 D4 (in) "Data inputs; supports 1.8V to 3.3V input voltage selectable by VDD supply. To connect a graphic source successfully to a display,the bit assignment of D[27:0] is critical (and not necessarily intuitive). note:if application (See Datasheet)"

## SN65LVDS93AZQLR
designator U?
10 - 135 MHz LVDS Serdes Transmitter, 3.3 V, -40 to +85 degC, 56-pin BGA MICROSTAR JUNIOR (ZQL), Green (RoHS & no Sb/Br); Manufacturer: Texas Instruments; PartNumber: SN65LVDS93AZQLR; Driver (RL)(Ohms): 100; Driver tpd(ns): 14.2; Flat Panel Display: TRUE; ICC(mA): 110; Number of Parallel Inputs: 28; PLL Frequency(MHz): 10 - 135; Serial Data Transmitter Channels: 4; SubFamily: LVDS Serdes (<100 MHz); Supply Voltage(s)(V): 3.3; DatasheetVersion: SLLS992A; PackageVersion: revH, Nov-2011; PackageReference: ZQL56; PackageDescription: 56-Ball Plastic Ball Grid Array, 7 x 4.5 mm Body, 0.65 mm Pitch; Supplier 1: Digi-Key; Supplier Part Number 1: 296-25110-2-ND; Supplier 2: Digi-Key; Supplier Part Number 2: 296-25110-1-ND; Supplier 3: Digi-Key; Supplier Part Number 3: 296-25110-6-ND; Supplier 4: Newark; Supplier Part Number 4: 50R7863; Supplier 5: Mouser; Supplier Part Number 5: 595-SN65LVDS93AZQLR; Eco-Plan: Green (RoHS & no Sb/Br); Transmitter: TRUE; Type of Line Circuit: LVDS; Mounting Technology: Surface Mount; Code_JEDEC: MO-285-BA-2; ComponentLink1Description: Datasheet; ComponentLink1URL: http://www.ti.com/general/docs/lit/getliterature.tsp?genericPartNumber=SN65LVDS93A&fileType=pdf; ComponentLink2Description: URL Link1; ComponentLink2URL: SamplesURL:http://www.ti.com/product/sn65lvds93a#samples
footprint ZQL56 (BGA, 56-Leads, Body 7x4.5mm, Pitch 0.65mm)
part A pins: A2 CLKIN (in) "Input pixel clock; rising or falling clock polarity is selectable by Control input CLKSEL", A3 D26 (in) "Data inputs; supports 1.8V to 3.3V input voltage selectable by VDD supply. To connect a graphic source successfully to a display,the bit assignment of D[27:0] is critical (and not necessarily intuitive). note:if application (See Datasheet)", A4 D24 (in) "Data inputs; supports 1.8V to 3.3V input voltage selectable by VDD supply. To connect a graphic source successfully to a display,the bit assignment of D[27:0] is critical (and not necessarily intuitive). note:if application (See Datasheet)", A5 D23 (in) "Data inputs; supports 1.8V to 3.3V input voltage selectable by VDD supply. To connect a graphic source successfully to a display,the bit assignment of D[27:0] is critical (and not necessarily intuitive). note:if application (See Datasheet)", A6 D22 (in) "Data inputs; supports 1.8V to 3.3V input voltage selectable by VDD supply. To connect a graphic source successfully to a display,the bit assignment of D[27:0] is critical (and not necessarily intuitive). note:if application (See Datasheet)", B3 ~{SHTDN} (in) "Device shut down;pull  low (de-assert) to shut down the device (low power, resets all registers) and high (assert)for normal operation.", B4 D25 (in) "Data inputs; supports 1.8V to 3.3V input voltage selectable by VDD supply. To connect a graphic source successfully to a display,the bit assignment of D[27:0] is critical (and not necessarily intuitive). note:if application (See Datasheet)", B5 D21 (in) "Data inputs; supports 1.8V to 3.3V input voltage selectable by VDD supply. To connect a graphic source successfully to a display,the bit assignment of D[27:0] is critical (and not necessarily intuitive). note:if application (See Datasheet)", B6 D20 (in) "Data inputs; supports 1.8V to 3.3V input voltage selectable by VDD supply. To connect a graphic source successfully to a display,the bit assignment of D[27:0] is critical (and not necessarily intuitive). note:if application (See Datasheet)", C1 Y3M (hiz) "Differential LVDS Data outputs.Output is high-impedance when S\H\T\D\N\ is pulled low (de-asserted).  Note: if the application only requires 18-bit color, this output can be left open", C2 Y3P (hiz) "Differential LVDS Data outputs.Output is high-impedance when S\H\T\D\N\ is pulled low (de-asserted).  Note: if the application only requires 18-bit color, this output can be left open", C6 D19 (in) "Data inputs; supports 1.8V to 3.3V input voltage selectable by VDD supply. To connect a graphic source successfully to a display,the bit assignment of D[27:0] is critical (and not necessarily intuitive). note:if application (See Datasheet)", D1 CLKM (hiz) "Differential LVDS pixel clock output.Output is high-impedance when S\H\T\D\N is pulled low (de-asserted)", D2 CLKP (hiz) "Differential LVDS pixel clock output.Output is high-impedance when S\H\T\D\N is pulled low (de-asserted)", D4 CLKSEL (in) "Selects between rising edge input clock trigger (CLKSEL = VIH) and falling edge input clock trigger(CLKSEL=VIL).", D5 D18 (in) "Data inputs; supports 1.8V to 3.3V input voltage selectable by VDD supply. To connect a graphic source successfully to a display,the bit assignment of D[27:0] is critical (and not necessarily intuitive). note:if application (See Datasheet)", D6 D17 (in) "Data inputs; supports 1.8V to 3.3V input voltage selectable by VDD supply. To connect a graphic source successfully to a display,the bit assignment of D[27:0] is critical (and not necessarily intuitive). note:if application (See Datasheet)", E1 Y2M (hiz) "Differential LVDS data outputs.Outputs are high-impedance when S\H\T\D\N\ is pulled low (de-asserted)", E2 Y2P (hiz) "Differential LVDS data outputs.Outputs are high-impedance when S\H\T\D\N\ is pulled low (de-asserted)", E5 D15 (in) "Data inputs; supports 1.8V to 3.3V input voltage selectable by VDD supply. To connect a graphic source successfully to a display,the bit assignment of D[27:0] is critical (and not necessarily intuitive). note:if application (See Datasheet)", E6 D16 (in) "Data inputs; supports 1.8V to 3.3V input voltage selectable by VDD supply. To connect a graphic source successfully to a display,the bit assignment of D[27:0] is critical (and not necessarily intuitive). note:if application (See Datasheet)", F6 D14 (in) "Data inputs; supports 1.8V to 3.3V input voltage selectable by VDD supply. To connect a graphic source successfully to a display,the bit assignment of D[27:0] is critical (and not necessarily intuitive). note:if application (See Datasheet)", G1 Y1M (hiz) "Differential LVDS data outputs.Outputs are high-impedance when S\H\T\D\N\ is pulled low (de-asserted)", G2 Y1P (hiz) "Differential LVDS data outputs.Outputs are high-impedance when S\H\T\D\N\ is pulled low (de-asserted)", G5 D12 (in) "Data inputs; supports 1.8V to 3.3V input voltage selectable by VDD supply. To connect a graphic source successfully to a display,the bit assignment of D[27:0] is critical (and not necessarily intuitive). note:if application (See Datasheet)", G6 D13 (in) "Data inputs; supports 1.8V to 3.3V input voltage selectable by VDD supply. To connect a graphic source successfully to a display,the bit assignment of D[27:0] is critical (and not necessarily intuitive). note:if application (See Datasheet)", H1 Y0M (hiz) "Differential LVDS pixel clock output. Output is high-impedance when S\H\T\D\N\ is pulled low (de-asserted)", H2 Y0P (hiz) "Differential LVDS pixel clock output. Output is high-impedance when S\H\T\D\N\ is pulled low (de-asserted)", H4 D10 (in) "Data inputs; supports 1.8V to 3.3V input voltage selectable by VDD supply. To connect a graphic source successfully to a display,the bit assignment of D[27:0] is critical (and not necessarily intuitive). note:if application (See Datasheet)", H6 D11 (in) "Data inputs; supports 1.8V to 3.3V input voltage selectable by VDD supply. To connect a graphic source successfully to a display,the bit assignment of D[27:0] is critical (and not necessarily intuitive). note:if application (See Datasheet)", J1 D27 (in) "Data inputs; supports 1.8V to 3.3V input voltage selectable by VDD supply. To connect a graphic source successfully to a display,the bit assignment of D[27:0] is critical (and not necessarily intuitive). note:if application (See Datasheet)", J2 D0 (in) "Data inputs; supports 1.8V to 3.3V input voltage selectable by VDD supply. To connect a graphic source successfully to a display,the bit assignment of D[27:0] is critical (and not necessarily intuitive). note:if application (See Datasheet)", J3 D3 (in) "Data inputs; supports 1.8V to 3.3V input voltage selectable by VDD supply. To connect a graphic source successfully to a display,the bit assignment of D[27:0] is critical (and not necessarily intuitive). note:if application (See Datasheet)", J4 D6 (in) "Data inputs; supports 1.8V to 3.3V input voltage selectable by VDD supply. To connect a graphic source successfully to a display,the bit assignment of D[27:0] is critical (and not necessarily intuitive). note:if application (See Datasheet)", J6 D9 (in) "Data inputs; supports 1.8V to 3.3V input voltage selectable by VDD supply. To connect a graphic source successfully to a display,the bit assignment of D[27:0] is critical (and not necessarily intuitive). note:if application (See Datasheet)", K1 D1 (in) "Data inputs; supports 1.8V to 3.3V input voltage selectable by VDD supply. To connect a graphic source successfully to a display,the bit assignment of D[27:0] is critical (and not necessarily intuitive). note:if application (See Datasheet)", K2 D2 (in) "Data inputs; supports 1.8V to 3.3V input voltage selectable by VDD supply. To connect a graphic source successfully to a display,the bit assignment of D[27:0] is critical (and not necessarily intuitive). note:if application (See Datasheet)", K3 D4 (in) "Data inputs; supports 1.8V to 3.3V input voltage selectable by VDD supply. To connect a graphic source successfully to a display,the bit assignment of D[27:0] is critical (and not necessarily intuitive). note:if application (See Datasheet)", K4 D5 (in) "Data inputs; supports 1.8V to 3.3V input voltage selectable by VDD supply. To connect a graphic source successfully to a display,the bit assignment of D[27:0] is critical (and not necessarily intuitive). note:if application (See Datasheet)", K5 D7 (in) "Data inputs; supports 1.8V to 3.3V input voltage selectable by VDD supply. To connect a graphic source successfully to a display,the bit assignment of D[27:0] is critical (and not necessarily intuitive). note:if application (See Datasheet)", K6 D8 (in) "Data inputs; supports 1.8V to 3.3V input voltage selectable by VDD supply. To connect a graphic source successfully to a display,the bit assignment of D[27:0] is critical (and not necessarily intuitive). note:if application (See Datasheet)"
part B pins: A1 GND (power) "Supply Ground for VCC, IOVCC, LVDSVCC, and PLLVCC", B1 GND (power) "Supply Ground for VCC, IOVCC, LVDSVCC, and PLLVCC.", B2 PLLVCC (power) "3.3V PLL analog supply", C3 GND (power) "Supply Ground for VCC, IOVCC, LVDSVCC, and PLLVCC", C4 IOVCC (power) "I/O supply reference voltage (1.8V up to 3.3V matching the GPU data output signal swing)", C5 GND (power) "Supply Ground for VCC, IOVCC, LVDSVCC, and PLLVCC.", D3 GND (power) "Supply Ground for VCC, IOVCC, LVDSVCC, and PLLVCC.", F1 LVDSVCC (power) "3.3V LVDS output analog supply", F2 GND (power) "Supply Ground for VCC, IOVCC, LVDSVCC, and PLLVCC.", F5 GND (power) "Supply Ground for VCC, IOVCC, LVDSVCC, and PLLVCC.", G3 GND (power) "Supply Ground for VCC, IOVCC, LVDSVCC, and PLLVCC.", G4 IOVCC (power) "I/O supply reference voltage (1.8V up to 3.3V matching the GPU data output signal swing)", H3 GND (power) "Supply Ground for VCC, IOVCC, LVDSVCC, and PLLVCC.", H5 VCC (power) "3.3V digital Supply Voltage", J5 GND (power) "Supply Ground for VCC, IOVCC, LVDSVCC, and PLLVCC."

## SN65LVDS93DGG
designator U?
Serdes (Serializer / Deserializer) Transmitter, 3.3 V, 227.5 MB/s Data Throughput, 56-pin TSSOP (DGG), Green (RoHS & no Sb/Br); Manufacturer: Texas Instruments; PartNumber: SN65LVDS93DGG; Data Throughput(MB/s): 227.5; Driver (RL)(Ohms): 100; Driver tpd(ns): 14.2; ICC(mA): 120; Number of Parallel Inputs: 28; PLL Frequency(MHz): 20 - 65; SerDes: TRUE; Serial Data Transmitter Channels: 4; SubFamily: LVDS Serdes (<100 MHz); Supply Voltage(s)(V): 3.3; Type of Line Circuit: LVDS; DatasheetVersion: SLLS302G; PackageVersion: revF, Dec-1997; PackageReference: DGG56; PackageDescription: 56-Pin Plastic Small Outline 0.5 mm Pitch; Eco-Plan: Green (RoHS & no Sb/Br); Mounting Technology: Surface Mount; Code_JEDEC: MO-153; ComponentLink1Description: Datasheet; ComponentLink1URL: http://www.ti.com/general/docs/lit/getliterature.tsp?genericPartNumber=SN65LVDS93&fileType=pdf; ComponentLink2Description: URL Link1; ComponentLink2URL: SamplesURL:http://www.ti.com/product/sn65lvds93#samples
footprint DGG56_N (TSSOP, 56-Leads, Body 14x6.1mm, Pitch 0.5mm, IPC Medium Density)
footprint DGG56_L (TSSOP, 56-Leads, Body 14x6.1mm, Pitch 0.5mm, IPC High Density)
footprint DGG56_M (TSSOP, 56-Leads, Body 14x6.1mm, Pitch 0.5mm, IPC Low Density)
pins: 1 VCC (power), 2 D5 (in), 3 D6 (in), 4 D7 (in), 5 GND (power), 6 D8 (in), 7 D9 (in), 8 D10 (in), 9 VCC (power), 10 D11 (in), 11 D12 (in), 12 D13 (in), 13 GND (power), 14 D14 (in), 15 D15 (in), 16 D16 (in), 17 CLKSEL (in), 18 D17 (in), 19 D18 (in), 20 D19 (in), 21 GND (power), 22 D20 (in), 23 D21 (in), 24 D22 (in), 25 D23 (in), 26 VCC (power), 27 D24 (in), 28 D25 (in), 29 GND (power), 30 D26 (in), 31 CLKIN (in), 32 ~{SHTDN} (in), 33 PLLGND (power), 34 PLLVCC (power), 35 PLLGND (power), 36 LVDSGND (power), 37 Y4P (out), 38 Y4M (out), 39 CLKOUTP (out), 40 CLKOUTM (out), 41 Y3P (out), 42 Y3M (out), 43 LVDSGND (power), 44 LVDSVCC (power), 45 Y2P (out), 46 Y2M (out), 47 Y1P (out), 48 Y1M (out), 49 LVDSGND (power), 50 D27 (in), 51 D0 (in), 52 D1 (in), 53 GND (power), 54 D2 (in), 55 D3 (in), 56 D4 (in)

## SN65LVDS93DGGG4
designator U?
Serdes (Serializer / Deserializer) Transmitter, 3.3 V, 227.5 MB/s Data Throughput, 56-pin TSSOP (DGG), Green (RoHS & no Sb/Br); Manufacturer: Texas Instruments; PartNumber: SN65LVDS93DGGG4; Data Throughput(MB/s): 227.5; Driver (RL)(Ohms): 100; Driver tpd(ns): 14.2; ICC(mA): 120; Number of Parallel Inputs: 28; PLL Frequency(MHz): 20 - 65; SerDes: TRUE; Serial Data Transmitter Channels: 4; SubFamily: LVDS Serdes (<100 MHz); Supply Voltage(s)(V): 3.3; Type of Line Circuit: LVDS; DatasheetVersion: SLLS302G; PackageVersion: revF, Dec-1997; PackageReference: DGG56; PackageDescription: 56-Pin Plastic Small Outline 0.5 mm Pitch; Eco-Plan: Green (RoHS & no Sb/Br); Mounting Technology: Surface Mount; Code_JEDEC: MO-153; ComponentLink1Description: Datasheet; ComponentLink1URL: http://www.ti.com/general/docs/lit/getliterature.tsp?genericPartNumber=SN65LVDS93&fileType=pdf; ComponentLink2Description: URL Link1; ComponentLink2URL: SamplesURL:http://www.ti.com/product/sn65lvds93#samples
footprint DGG56_N (TSSOP, 56-Leads, Body 14x6.1mm, Pitch 0.5mm, IPC Medium Density)
footprint DGG56_L (TSSOP, 56-Leads, Body 14x6.1mm, Pitch 0.5mm, IPC High Density)
footprint DGG56_M (TSSOP, 56-Leads, Body 14x6.1mm, Pitch 0.5mm, IPC Low Density)
pins: 1 VCC (power), 2 D5 (in), 3 D6 (in), 4 D7 (in), 5 GND (power), 6 D8 (in), 7 D9 (in), 8 D10 (in), 9 VCC (power), 10 D11 (in), 11 D12 (in), 12 D13 (in), 13 GND (power), 14 D14 (in), 15 D15 (in), 16 D16 (in), 17 CLKSEL (in), 18 D17 (in), 19 D18 (in), 20 D19 (in), 21 GND (power), 22 D20 (in), 23 D21 (in), 24 D22 (in), 25 D23 (in), 26 VCC (power), 27 D24 (in), 28 D25 (in), 29 GND (power), 30 D26 (in), 31 CLKIN (in), 32 ~{SHTDN} (in), 33 PLLGND (power), 34 PLLVCC (power), 35 PLLGND (power), 36 LVDSGND (power), 37 Y4P (out), 38 Y4M (out), 39 CLKOUTP (out), 40 CLKOUTM (out), 41 Y3P (out), 42 Y3M (out), 43 LVDSGND (power), 44 LVDSVCC (power), 45 Y2P (out), 46 Y2M (out), 47 Y1P (out), 48 Y1M (out), 49 LVDSGND (power), 50 D27 (in), 51 D0 (in), 52 D1 (in), 53 GND (power), 54 D2 (in), 55 D3 (in), 56 D4 (in)